# Altium schematic symbol library N-Analog.SCHLIB: 70 symbols
Pins are listed as number, name and electrical type; pins without a type are passive.

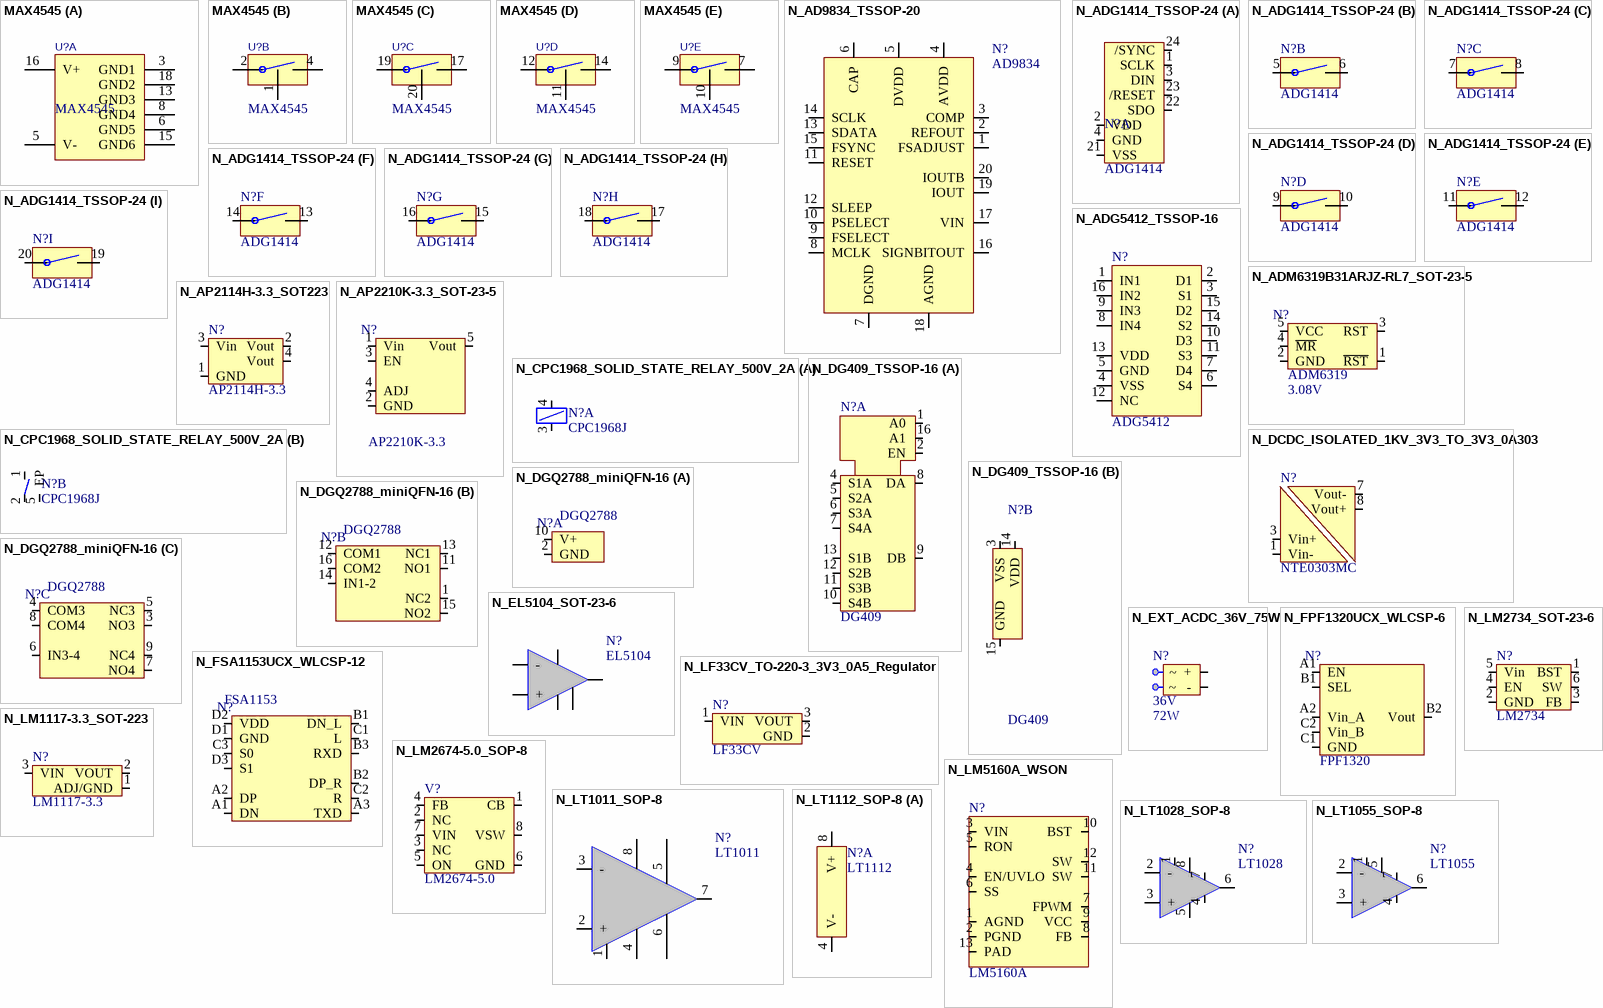
[diagram p0: symbols MAX4545 to N_LT1112_SOP-8]

## MAX4545
designator U?, comment Type: MAX4545  (hidden comment: N_MAX4545_SSOP-20)
Low-voltage bi-directional RF/video switches; Supplier - E+H Flowtec AG: S50106935
footprint SMD_SSOP_20
part A pins: 3 GND1, 5 V-, 6 GND5, 8 GND4, 13 GND3, 15 GND6, 16 V+, 18 GND2
part B pins: 1 IN1, 2 COM1, 4 NO1
part C pins: 17 NO2, 19 COM2, 20 IN2
part D pins: 11 IN3, 12 COM3, 14 NO3
part E pins: 7 NO4, 9 COM4, 10 IN4

## N_AD9834_TSSOP-20
designator N?, comment AD9834
20 mW, 2.3V to 5.5V, 75 MHz complete DDS; Supplier - Digikey: AD9834BRUZ-ND; Type: AD9834
footprint SMD_TSSOP_20
footprint SMD_TSSOP_20
pins: 1 FSADJUST, 2 REFOUT, 3 COMP, 4 AVDD, 5 DVDD, 6 CAP, 7 DGND, 8 MCLK, 9 FSELECT, 10 PSELECT, 11 RESET, 12 SLEEP, 13 SDATA, 14 SCLK, 15 FSYNC, 16 SIGNBITOUT, 17 VIN, 18 AGND, 19 IOUT, 20 IOUTB

## N_ADG1414_TSSOP-24
designator N?  Type: ADG1414  (hidden comment: N_ADG1414_TSSOP-24)
9.5Ohm ROn +-15V / +12V / +-5V iCMOS Serially-Controlled Octal SPST Switches; Supplier - Digikey: ADG1414BRUZ-REEL7CT-ND
footprint SMD_TSSOP_24
part A pins: 1 SCLK, 2 VDD, 3 DIN, 4 GND, 21 VSS, 22 SDO, 23 /RESET, 24 /SYNC
part B pins: 5 S1, 6 D1
part C pins: 7 S2, 8 D2
part D pins: 9 S3, 10 D3
part E pins: 11 S4, 12 D4
part F pins: 13 D5, 14 S5
part G pins: 15 D6, 16 S6
part H pins: 17 D7, 18 S7
part I pins: 19 D8, 20 S8

## N_ADG5412_TSSOP-16
designator N?, comment ADG5412
High Voltage Latch-Up Proof Quad SPST Switches; Supplier - Digikey: ADG5412BRUZ-REEL7CT-NC; Type: ADG5412
footprint SMD_TSSOP_16
pins: 1 IN1, 2 D1, 3 S1, 4 VSS, 5 GND, 6 S4, 7 D4, 8 IN4, 9 IN3, 10 D3, 11 S3, 12 NC, 13 VDD, 14 S2, 15 D2, 16 IN2

## N_ADM6319B31ARJZ-RL7_SOT-23-5
designator N?  value 3.08V  Type: ADM6319  (hidden comment: N_ADM6319B31ARJZ-RL7_SOT-23-5)
IC SUPERVISOR MANUAL RST SOT23-5; Supplier - Digikey: ADM6319B31ARJZ-RL7DKR-ND
footprint SMD_SOT_23_5
pins: 1 ~{RST}, 2 GND, 3 RST, 4 ~{MR}, 5 VCC

## N_AP2114H-3.3_SOT223
designator N?  Type: AP2114H-3.3  (hidden comment: N_AP2114H-3.3_SOT223)
1A Low Noise CMOS LDO Regulator; Supplier - Digikey: AP2114H-3.3TRG1DICT-ND
footprint SMD_SOT_22_3
pins: 1 GND, 2 Vout, 3 Vin, 4 Vout

## N_AP2210K-3.3_SOT-23-5
designator N?, comment AP2210K-3.3
IC REG LINEAR 3.3V 300MA SOT23-5; Supplier - Digikey: AP2210K-3.3TRG1DICT-ND; Type: AP2210K-3.3
footprint SMD_SOT_23_5
pins: 1 Vin , 2 GND, 3 EN, 4 ADJ, 5 Vout

## N_CPC1968_SOLID_STATE_RELAY_500V_2A
designator N?  Type: CPC1968J  (hidden comment: N_CPC1968_SOLID_STATE_RELAY_500V_2A)
CPC1968 / ISOPLUS - 264 Power Relay; Supplier - Digikey: CLA390-ND
footprint THT_CPC1968J_SOLID_STATE_RELAY_BENT
part A pins: 3, 4
part B pins: 1, 2, 5 EP

## N_DCDC_ISOLATED_1KV_3V3_TO_3V3_0A303
designator N?  Type: NTE0303MC  (hidden comment: N_DCDC_ISOLATED_1KV_3V3_TO_3V3_0A303)
Supplier - Digikey: 811-1673-5-ND
footprint SMD_MODULE_8
pins: 1 Vin-, 3 Vin+, 7 Vout-, 8 Vout+

## N_DG409_TSSOP-16
designator N?  Type: DG409  (hidden comment: N_DG409_TSSOP-16)
Single 8-Channel/Differential 4-Channel, CMOS Analog Multiplexers; Supplier - Digikey: DG409LDQ-T1-E3CT-ND
footprint SMD_TSSOP_16
part A pins: 1 A0, 2 EN, 4 S1A, 5 S2A, 6 S3A, 7 S4A, 8 DA, 9 DB, 10 S4B, 11 S3B, 12 S2B, 13 S1B, 16 A1
part B pins: 3 VSS, 14 VDD, 15 GND

## N_DGQ2788_miniQFN-16
designator N?  Type: DGQ2788  (hidden comment: *)
2 Circuit IC Switch 2:2 500mOhm 16-miniQFN (1.8x2.6); Supplier - Digikey: DGQ2788AEN-T1-GE4CT-ND
footprint SMD_smallQFN-16 (QFN, 16-Leads, Body 1.80x2.60mm, Pitch 0.40mm, IPC Medium Density)
part A pins: 2 GND, 10 V+
part B pins: 1 NC2, 11 NO1, 12 COM1, 13 NC1, 14 IN1-2, 15 NO2, 16 COM2
part C pins: 3 NO3, 4 COM3, 5 NC3, 6 IN3-4, 7 NO4, 8 COM4, 9 NC4

## N_EL5104_SOT-23-6
designator N?  Type: EL5104  (hidden comment: N_EL5104_SOT-23-6)
Supplier - Digikey: EL5104IWZ-T7ACT-ND
footprint SMD_SOT_23_6
pins: 1 OUT, 2 VS-, 3 +, 4 -, 5 /EN, 6 VS+

## N_EXT_ACDC_36V_75W
designator N?  value 36V  Value2: 72W  (hidden comment: N_EXT_ACDC_36V_75W)
Supplier - Digikey: 285-1829-ND
footprint THT_CON_P2.54_D0.9_1X2
pins: 1 ~  +, 2 ~   -

## N_FPF1320UCX_WLCSP-6
designator N?  Type: FPF1320  (hidden comment: *)
Power Switch/Driver 2:1 P-Channel 1.5A 6-WLCSP (0.96x1.66); Supplier - Digikey: FPF1320UCXCT-ND
footprint SMD_WLCSP_6_1.0X1.5 (BGA, 6-Leads, Body 0.96x1.46mmx0.63mm, Pitch 0.50mm)
pins: A1 EN, A2 Vin_A, B1 SEL, B2 Vout, C1 GND, C2 Vin_B

## N_FSA1153UCX_WLCSP-12
designator N?  Type: FSA1153  (hidden comment: *)
1 Circuit IC Switch 2Ohm 12-WLCSP (1.41x1.575); Supplier - Digikey: FSA1153UCXOSCT-ND
footprint SMD_WLCSP_12 (BGA, 12-Leads, Body 1.41x1.57mmx0.64mm, Pitch 0.40mm)
pins: A1 DN, A2 DP, A3 TXD, B1 DN_L, B2 DP_R, B3 RXD, C1 L, C2 R, C3 S0, D1 GND, D2 VDD, D3 S1

## N_LF33CV_TO-220-3_3V3_0A5_Regulator
designator N?  Type: LF33CV  (hidden comment: N_LF33CV_TO-220-3_3V3_0A5_Regulator)
3.3V 500mALow-Dropout Linear Regulator; Supplier - Mouser: 511-LF33CV
footprint THT_TO_220
pins: 1 VIN, 2 GND, 3 VOUT

## N_LM1117-3.3_SOT-223
designator N?  Type: LM1117-3.3  (hidden comment: N_LM1117-3.3_SOT-223)
800mA Low-Dropout Linear Regulator; Supplier - E+H-flowtec SAP: 50093839
footprint SMD_SOT_22_3
pins: 1 ADJ/GND, 2 VOUT, 3 VIN, 4 VOUT

## N_LM2674-5.0_SOP-8
designator V?  Type: LM2674-5.0  (hidden comment: N_LM2674-5.0_SOP-8)
Power Converter High Efficiency 500mA Step-Down Voltage Regulator; Supplier - E+H-flowtec SAP: 50098314
footprint SMD_SOP_8
pins: 1 CB, 2 NC, 3 NC, 4 FB, 5 ON, 6 GND, 7 VIN, 8 VSW

## N_LM2734_SOT-23-6
designator N?  Type: LM2734  (hidden comment: N_LM2734_SOT-23-6)
Thin SOT 1A Load Step-Down DC-DC Regulator; Supplier - Digikey: LM2734XMK/NOPBCT-ND
footprint SMD_SOT_23_6
pins: 1 BST, 2 GND, 3 FB, 4 EN, 5 Vin, 6 SW

## N_LM5160A_WSON
designator N?  Type: LM5160A  (hidden comment: N_LM5160A_WSON)
Power, Step-Down Converter, Vinmax = 65V, 1.5A
pins: 1 AGND, 2 PGND, 3 VIN, 4 EN/UVLO, 5 RON, 6 SS, 7 FPWM, 8 FB, 9 VCC, 10 BST, 11 SW, 12 SW, 13 PAD

## N_LT1011_SOP-8
designator N?  Type: LT1011  (hidden comment: N_LT1011_SOP-8)
Voltage Comparator; Supplier - Digikey: LT1011CS8#PBF-ND
footprint SMD_SOP_8
pins: 1 GND, 2 +, 3 -, 4 V-, 5 Balance, 6 Balance/Strobe, 7 OUTPUT, 8 V+

## N_LT1028_SOP-8
designator N?  Type: LT1028  (hidden comment: N_LT1028_SOP-8)
Ultralow Noise Precision High Speed Op Amps; Supplier - Digikey: LT1028CS8#PBF-ND
footprint SMD_SOP_8
pins: 1 VOS-TRIM, 2 -, 3 +, 4 V-, 5 OVERCOMP, 6 OUT-B, 7 V+, 8 VOS-TRIM

## N_LT1055_SOP-8
designator N?  Type: LT1055  (hidden comment: N_LT1055_SOP-8)
Precision, High Speed, JFET Input Operational Amplifier; Supplier - Digikey: LT1055S8#PBF-ND
footprint SMD_SOP_8
pins: 1 BAL, 2 -, 3 +, 4 V-, 5 BAL, 6 OUT-B, 7 V+

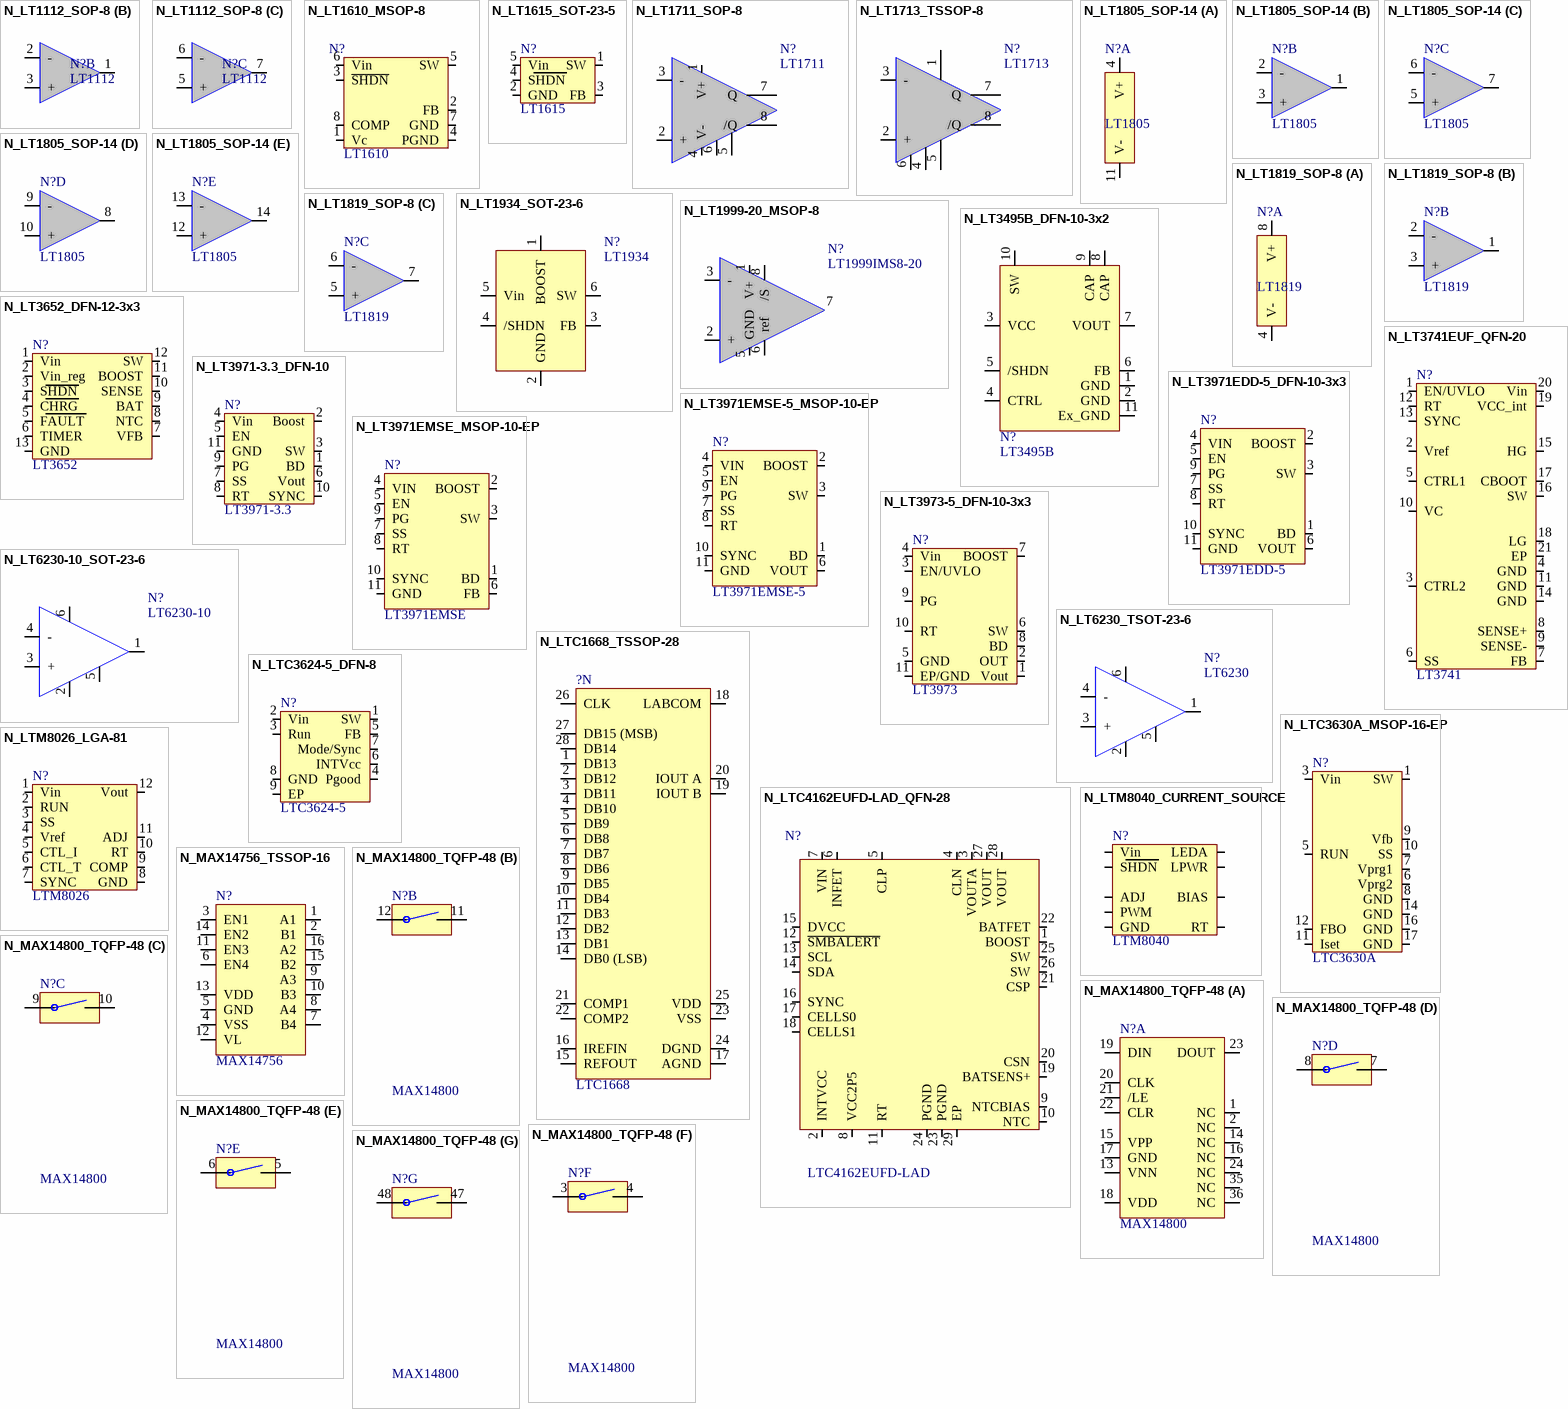
[diagram p1: symbols N_LT1112_SOP-8 to N_MAX14800_TQFP-48]

## N_LT1112_SOP-8
designator N?, comment LT1112
Dual Low Power Precision, Picoamp input Operational Amplifier; Supplier - E+H-flowtec SAP: 50066003; Type: LT1112
footprint SMD_SOP_8
part A pins: 4 V-, 8 V+
part B pins: 1 OUT-A, 2 -, 3 +
part C pins: 5 +, 6 -, 7 OUT-B

## N_LT1610_MSOP-8
designator N?  Type: LT1610  (hidden comment: N_LT1610_MSOP-8)
Supplier - Digikey: LT1610CMS8#PBF-ND
footprint SMD_MSOP-8
pins: 1 Vc, 2 FB, 3 ~{SHDN}, 4 PGND, 5 SW, 6 Vin, 7 GND, 8 COMP

## N_LT1615_SOT-23-5
designator N?  Type: LT1615  (hidden comment: N_LT1615_SOT-23-5)
Micropower Set-Up DC/DC Converter in ThinSOT; Supplier - Digikey: LT1615ES5#TRMPBFCT-ND
footprint SMD_SOT_23_5
pins: 1 SW, 2 GND, 3 FB, 4 SHDN, 5 Vin

## N_LT1711_SOP-8
designator N?  Type: LT1711  (hidden comment: N_LT1711_SOP-8)
Rail-to-rail Voltage Comparator; Supplier - Digikey: LT1711CMS8#PBF-ND
footprint SMD_SOP_8
pins: 1 V+, 2 +, 3 -, 4 V-, 5 LATCH ENABLE, 6 GND, 7 Q, 8 /Q

## N_LT1713_TSSOP-8
designator N?  Type: LT1713  (hidden comment: N_LT1713_TSSOP-8)
Single, 7ns, Low Power, Rail-to-Rail Comparator; Supplier - Digikey: LT1713CMS8#PBF-ND
footprint SMD_TSSOP_8
pins: 1 V+, 2 +, 3 -, 4 V-, 5 Latch Enable, 6 GND, 7 Q, 8 /Q

## N_LT1805_SOP-14
designator N?  Type: LT1805  (hidden comment: N_LT1805_SOP-14)
Quad 100V/us 85MHz, Rail-To-Rail Input and Output Op Amps; Supplier - Digikey: LT1805CS#PBF-ND
footprint SMD_SOP_14
part A pins: 4 V+, 11 V-
part B pins: 1 OUT-A, 2 -, 3 +
part C pins: 5 +, 6 -, 7 OUT-B
part D pins: 8 OUT-C, 9 -, 10 +
part E pins: 12 +, 13 -, 14 OUT-D

## N_LT1819_SOP-8
designator N?, comment LT1819
400MHz, 2500V/us, 9mA Single Operational Amplifier; Supplier - Digikey: LT1819CMS8#PBF-ND; Type: LT1819
footprint SMD_SOP_8
part A pins: 4 V-, 8 V+
part B pins: 1 OUT-A, 2 -, 3 +
part C pins: 5 +, 6 -, 7 OUT-B

## N_LT1934_SOT-23-6
designator N?, comment LT1934
Micropower Step-Down Switching Regulators; Supplier - Digikey: LT1934ES6#TRMPBFCT-ND; Type: LT1934
footprint SMD_SOT_23_6
pins: 1 BOOST, 2 GND, 3 FB, 4 /SHDN, 5 Vin, 6 SW

## N_LT1999-20_MSOP-8
designator N?  Type: LT1999IMS8-20  (hidden comment: N_LT1999-20_MSOP-8)
High Voltage, Bidirectional / Current Sense Amplifier; Supplier - Digikey: LT1999IMS8-20#PBF-ND
footprint SMD_MSOP-8
pins: 1 V+, 2 +, 3 -, 4 V+, 5 GND, 6 ref, 7 Q, 8 /S

## N_LT3495B_DFN-10-3x2
designator N?, comment LT3495B
Micropower Low Noise Boost Converter with Output Disconnect; Supplier - Digikey: LT3495BEDDB#TRMPBFTR-ND; Type: LT3495B
footprint SMD_DFN_10_3x2
pins: 1 GND, 2 GND, 3 VCC, 4 CTRL, 5 /SHDN, 6 FB, 7 VOUT, 8 CAP, 9 CAP, 10 SW, 11 Ex_GND

## N_LT3652_DFN-12-3x3
designator N?  Type: LT3652  (hidden comment: N_LT3652_DFN-12-3x3)
Power Tracking 2A Battery Charger for Solar Power; Supplier - Digikey: LT3652EDD#PBF-ND
footprint SMD_DFN_12_3x3
pins: 1 Vin, 2 Vin_reg, 3 SHDN, 4 CHRG, 5 FAULT, 6 TIMER, 7 VFB, 8 NTC, 9 BAT, 10 SENSE, 11 BOOST, 12 SW, 13 GND

## N_LT3741EUF_QFN-20
designator N?  Type: LT3741  (hidden comment: N_LT3741EUF_QFN-20)
High Power, CCVC, Step-Down Controller; Supplier - Digikey: LT3741EUF#PBF-ND
footprint SMD_QFN-20
pins: 1 EN/UVLO, 2 Vref, 3 CTRL2, 4 GND, 5 CTRL1, 6 SS, 7 FB, 8 SENSE+, 9 SENSE-, 10 VC, 11 GND, 12 RT, 13 SYNC, 14 GND, 15 HG, 16 SW, 17 CBOOT, 18 LG, 19 VCC_int, 20 Vin, 21 EP

## N_LT3971-3.3_DFN-10
designator N?  Type: LT3971-3.3  (hidden comment: N_LT3971-3.3_DFN-10)
38V, 1.2A, 2MHz Step-Down Regulator with 2.8µA Quiescent Current; Supplier - Digikey: LT3971EDD-3.3#PBF-ND
footprint SMD_DFN_10_3X3
pins: 1 BD, 2 Boost, 3 SW, 4 Vin, 5 EN, 6 Vout, 7 SS, 8 RT, 9 PG, 10 SYNC, 11 GND

## N_LT3971EDD-5_DFN-10-3x3
designator N?  Type: LT3971EDD-5  (hidden comment: N_LT3971EDD-5_DFN-10-3x3)
38V, 1.2A, 2MHz Step-Down Regulator with 2.8uA Quiescent Current; Supplier - Farnell: 2068055
footprint SMD_DFN_10_3X3
pins: 1 BD, 2 BOOST, 3 SW, 4 VIN, 5 EN, 6 VOUT, 7 SS, 8 RT, 9 PG, 10 SYNC, 11 GND

## N_LT3971EMSE-5_MSOP-10-EP
designator N?  Type: LT3971EMSE-5  (hidden comment: N_LT3971EMSE-5_MSOP-10-EP)
38V, 1.2A, 2MHz Step-Down Regulator with 2.8uA Quiescent Current; Supplier - Digikey: LT3971EMSE-5#PBF-ND
footprint SMD_MSOP_10_EP
pins: 1 BD, 2 BOOST, 3 SW, 4 VIN, 5 EN, 6 VOUT, 7 SS, 8 RT, 9 PG, 10 SYNC, 11 GND

## N_LT3971EMSE_MSOP-10-EP
designator N?  Type: LT3971EMSE  (hidden comment: N_LT3971EMSE_MSOP-10-EP)
38V, 1.2A, 2MHz Step-Down Regulator with 2.8uA Quiescent Current; Supplier - Digikey: LT3971EMSE#PBF-ND
footprint SMD_MSOP_10_EP
pins: 1 BD, 2 BOOST, 3 SW, 4 VIN, 5 EN, 6 FB, 7 SS, 8 RT, 9 PG, 10 SYNC, 11 GND

## N_LT3973-5_DFN-10-3x3
designator N?, comment Type: LT3973  (hidden comment: N_LT3973-5_DFN-10)
42V, 750mA Step-Down Regulator with 2.5uA Quiescent Current and Integrated Diodes; Supplier - Digikey: LT3973EDD-5#PBF-ND
footprint SMD_DFN_10_3X3
pins: 1 Vout, 2 OUT, 3 EN/UVLO, 4 Vin, 5 GND, 6 SW, 7 BOOST, 8 BD, 9 PG, 10 RT, 11 EP/GND

## N_LT6230-10_SOT-23-6
designator N?, comment LT6230-10
215MHz, Rail-to-Rail, 1.1nV/sqrt(Hz), 3.5mA Op Amp Family; Supplier - Digikey: LT6230CS6-10#TR-ND; Type: LT6230-10
footprint SMD_SOT_23_6
pins: 1 OUT, 2 V-, 3 +, 4 -, 5 /EN, 6 V+

## N_LT6230_TSOT-23-6
designator N?  Type: LT6230  (hidden comment: N_LT6230_TSOT-23-6)
215MHz, Rail-to-Rail Output, 1.1nV/sqrt(Hz), 3.5mA Op Amp Family
footprint SMD_TSOT_23_6
pins: 1 OUT, 2 V-, 3 +, 4 -, 5 /EN, 6 V+

## N_LTC1668_TSSOP-28
designator ?N, comment LTC1668
16-Bit, 50Msps DAC; Supplier - Digikey: LTC1668CG#PBF-ND; Type: LTC1668
footprint SMD_TSSOP_28
pins: 1 DB13, 2 DB12, 3 DB11, 4 DB10, 5 DB9, 6 DB8, 7 DB7, 8 DB6, 9 DB5, 10 DB4, 11 DB3, 12 DB2, 13 DB1, 14 DB0 (LSB), 15 REFOUT, 16 IREFIN, 17 AGND, 18 LABCOM, 19 IOUT B, 20 IOUT A, 21 COMP1, 22 COMP2, 23 VSS, 24 DGND, 25 VDD, 26 CLK, 27 DB15 (MSB), 28 DB14

## N_LTC3624-5_DFN-8
designator N?  Type: LTC3624-5  (hidden comment: N_LTC3624-5_DFN-8)
17V, 2A Synchronous Step-Down Regulator with 3.5µA Quiescent Current; Supplier - Digikey: LTC3624EDD-25#PBF-ND
footprint SMD_DFN_8_3X3
pins: 1 SW, 2 Vin, 3 Run, 4 Pgood, 5 FB, 6 INTVcc, 7 Mode/Sync, 8 GND, 9 EP

## N_LTC3630A_MSOP-16-EP
designator N?  Type: LTC3630A  (hidden comment: N_LTC3630A_MSOP-16-EP)
High Efficiency, 76V 500mA Synchronous Step-Down Converter; Supplier - Digikey: LTC3630AEMSE#PBF-ND
footprint SMD_MSOP_16_EP_SKIP1
pins: 1 SW, 3 Vin, 5 RUN, 6 Vprg2, 7 Vprg1, 8 GND, 9 Vfb, 10 SS, 11 Iset, 12 FBO, 14 GND, 16 GND, 17 GND

## N_LTC4162EUFD-LAD_QFN-28
designator N?  Type: LTC4162EUFD-LAD  (hidden comment: N_LTC4162EUFD-LAD_QFN-28)
35V/3.2A MULTI-CELL LITHIUM-ION; Supplier - Digikey: LTC4162EUFD-LAD#PBF-ND
footprint QFN50P400X500X80_HS-29N (QFN, 28-Leads, Body 4.00x5.00mm, Pitch 0.50mm, Thermal Pad 2.65x3.65mm, IPC Medium Density)
pins: 1 BOOST, 2 INTVCC, 3 VOUTA, 4 CLN, 5 CLP, 6 INFET, 7 VIN, 8 VCC2P5, 9 NTCBIAS, 10 NTC, 11 RT, 12 ~{SMBALERT}, 13 SCL, 14 SDA, 15 DVCC, 16 SYNC, 17 CELLS0, 18 CELLS1, 19 BATSENS+, 20 CSN, 21 CSP, 22 BATFET, 23 PGND, 24 PGND, 25 SW, 26 SW, 27 VOUT, 28 VOUT, 29 EP

## N_LTM8026_LGA-81
designator N?  Type: LTM8026  (hidden comment: N_LTM8026_LGA-81)
Supplier - Digikey: LTM8026EV#PBF-ND
footprint SMD_LGA-81
pins: 1 Vin, 2 RUN, 3 SS, 4 Vref, 5 CTL_I, 6 CTL_T, 7 SYNC, 8 GND, 9 COMP, 10 RT, 11 ADJ, 12 Vout

## N_LTM8040_CURRENT_SOURCE
designator N?, comment Type: LTM8040  (hidden comment: N_LTM8040_LGA-66)
36V, 1A uModule LED Driver and Current Source; Supplier - Digikey: LTM8040EV#PBF-ND
footprint SMD_LGA-66 (SMD LGA66 package)
pins: 1 GND, 2 Vin, 3 LPWR, 4 RT, 5 ADJ, 6 SHDN, 7 BIAS, 8 PWM, 9 LEDA

## N_MAX14756_TSSOP-16
designator N?, comment MAX14756
Quad SPST +70V Analog Switches; Supplier - Digikey: MAX14756EUE+-ND; Type: MAX14756
footprint SMD_TSSOP_16
pins: 1 A1, 2 B1, 3 EN1, 4 VSS, 5 GND, 6 EN4, 7 B4, 8 A4, 9 A3, 10 B3, 11 EN3, 12 VL, 13 VDD, 14 EN2, 15 B2, 16 A2

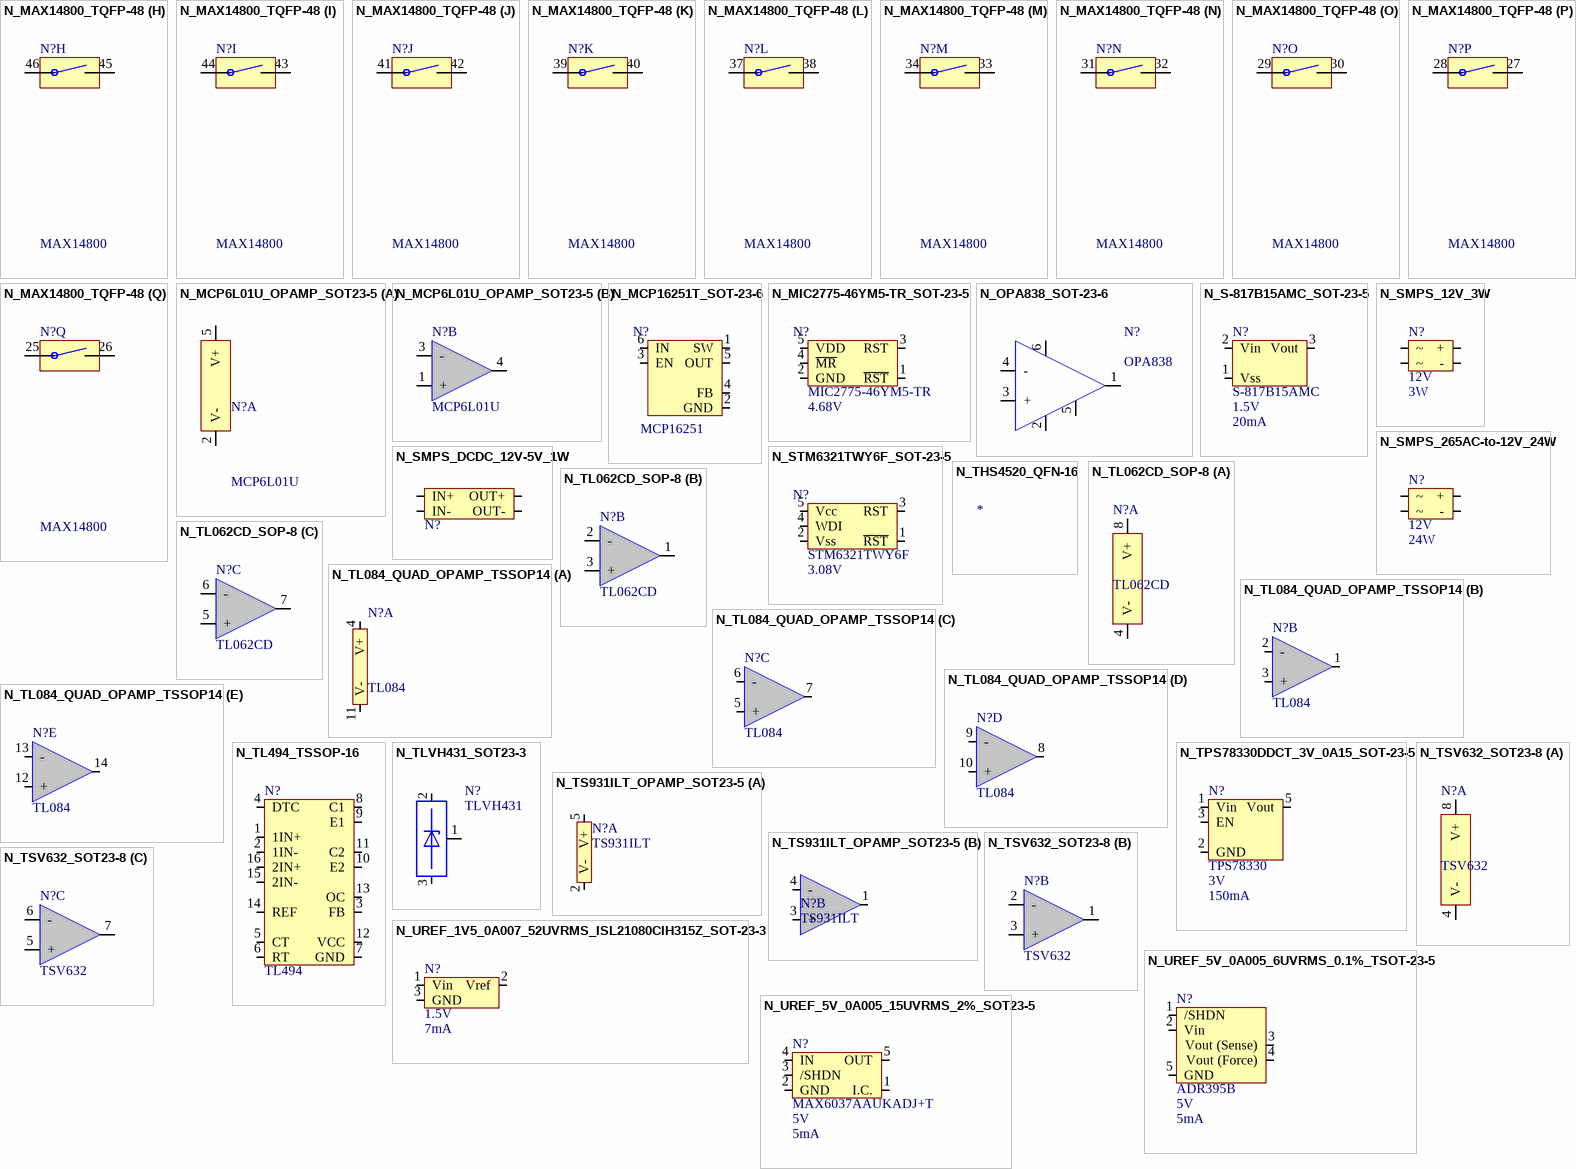
[diagram p2: symbols N_MAX14800_TQFP-48 to N_UREF_5V_0A005_15UVRMS_2%_SOT23-5]

## N_MAX14800_TQFP-48
designator N?, comment MAX14800
HV Analog Switches, Low-Charge Injection, 16-Channel; Supplier - Digikey: MAX14800CCM+-ND; Type: MAX14800
footprint SMD_TQFP-48
part A pins: 1 NC, 2 NC, 13 VNN, 14 NC, 15 VPP, 16 NC, 17 GND, 18 VDD, 19 DIN, 20 CLK, 21 /LE, 22 CLR, 23 DOUT, 24 NC, 35 NC, 36 NC
part B pins: 11 NO0, 12 COM0
part C pins: 9 COM1, 10 NO1
part D pins: 7 NO2, 8 COM2
part E pins: 5 NO3, 6 COM3
part F pins: 3 COM4, 4 NO4
part G pins: 47 NO5, 48 COM5
part H pins: 45 NO6, 46 COM6
part I pins: 43 NO7, 44 COM7
part J pins: 41 COM8, 42 NO8
part K pins: 39 COM9, 40 NO9
part L pins: 37 COM10, 38 NO10
part M pins: 33 NO11, 34 COM11
part N pins: 31 COM12, 32 NO12
part O pins: 29 COM13, 30 NO13
part P pins: 27 NO14, 28 COM14
part Q pins: 25 COM15, 26 NO15

## N_MCP6L01U_OPAMP_SOT23-5
designator N?  Type: MCP6L01U  (hidden comment: N_MCP6L01U_OPAMP_SOT23-5)
1 MHz, 85 µA Op Amps; Supplier - Digikey: MCP6L01UT-E/OTCT-ND
footprint SMD_SOT_23_5
part A pins: 2 V-, 5 V+
part B pins: 1 +, 3 -, 4 OUT-A

## N_MCP16251T_SOT-23-6
designator N?  Type: MCP16251  (hidden comment: *)
Boost Switching Regulator IC Positive Adjustable 1.8V 1 Output 100mA (Switch) SOT-23-6; Supplier - Digikey: MCP16251T-I/CHCT-ND
footprint SMD_SOT_23_6
pins: 1 SW, 2 GND, 3 EN, 4 FB, 5 OUT, 6 IN

## N_MIC2775-46YM5-TR_SOT-23-5
designator N?  value 4.68V  Type: MIC2775-46YM5-TR  (hidden comment: N_MIC2775-46YM5-TR_SOT-23-5)
IC SUPERVISOR MICROPOWER SOT23-5; Supplier - Digikey: 576-2684-1-ND
footprint SMD_SOT_23_5
pins: 1 ~{RST}, 2 GND, 3 RST, 4 ~{MR}, 5 VDD

## N_OPA838_SOT-23-6
designator N?  Type: OPA838
OPA838 1-mA, 300-MHz Gain Bandwidth, Voltage-Feedback Op Amp; Supplier - Digikey: 296-47401-1-ND
footprint SMD_SOT_23_6
pins: 1 OUT, 2 V-, 3 +, 4 -, 5 /EN, 6 V+

## N_S-817B15AMC_SOT-23-5
designator N?  value 1.5V  Type: S-817B15AMC  Value2: 20mA  (hidden comment: N_S-817B15AMC_SOT-23-5)
Super-Small Package CMOS Voltage Regulator
footprint SMD_SOT_23_5
pins: 1 Vss, 2 Vin, 3 Vout

## N_SMPS_12V_3W
designator N?  value 12V  Value2: 3W  (hidden comment: N_SMPS_12V_3W)
Supplier - Digikey: 497-8379-5-ND; Type: Universal-12V
footprint THT_SPAC265BC12P0.30
pins: 1 ~, 2 ~, 3 +, 4 -

## N_SMPS_265AC-to-12V_24W
designator N?  value 12V  Value2: 24W  (hidden comment: N_SMPS_265AC-to-12V_24W)
Supplier - Digikey: 1470-2272-ND; Type: Universal-12V
footprint THT_VCP24US12-E (SMPS Footprint (VCP24US12-E))
pins: 1 ~, 2 ~, 3 +, 4 -

## N_SMPS_DCDC_12V-5V_1W
designator N?  (value not drawn)
DC-DC converter, 12V to 5V; Supplier - Digikey: 102-1401-1-ND
footprint SMD_VBT1-S12-S5-SMT-TR
pins: 1 IN-, 2 IN+, 4 OUT-, 5 OUT+

## N_STM6321TWY6F_SOT-23-5
designator N?  value 3.08V  Type: STM6321TWY6F  (hidden comment: N_STM6321TWY6F_SOT-23-5)
IC SUPERVISOR PB RESET SOT23-5; Supplier - Digikey: 497-4661-1-ND
footprint SMD_SOT_23_5
pins: 1 ~{RST}, 2 Vss, 3 RST, 4 WDI, 5 Vcc

## N_THS4520_QFN-16
designator *

## N_TL062CD_SOP-8
designator N?  Type: TL062CD  (hidden comment: N_TL062CD_SOP-8)
Low-power JFET dual operation amplifier; Supplier - E+H-flowtec SAP: 50020349
footprint SMD_SOP_8
part A pins: 4 V-, 8 V+
part B pins: 1 OUT-A, 2 -, 3 +
part C pins: 5 +, 6 -, 7 OUT-B

## N_TL084_QUAD_OPAMP_TSSOP14
designator N?  Type: TL084  (hidden comment: N_TL084_QUAD_OPAMP_TSSOP14)
TL084 Quad Opamp; Supplier - E+H-flowtec SAP: 71120157
footprint SMD_TSSOP_14
part A pins: 4 V+, 11 V-
part B pins: 1 OUT, 2 -, 3 +
part C pins: 5 +, 6 -, 7 OUT
part D pins: 8 OUT, 9 -, 10 +
part E pins: 12 +, 13 -, 14 OUT

## N_TL494_TSSOP-16
designator N?  Type: TL494  (hidden comment: N_TL494_TSSOP-16)
Pulse-Width-Modulation Control Circuit; Supplier - Digikey: 296-10192-2-ND
footprint SMD_TSSOP_16
pins: 1 1IN+, 2 1IN-, 3 FB, 4 DTC, 5 CT, 6 RT, 7 GND, 8 C1, 9 E1, 10 E2, 11 C2, 12 VCC, 13 OC, 14 REF, 15 2IN-, 16 2IN+

## N_TLVH431_SOT23-3
designator N?  Type: TLVH431  (hidden comment: N_TLVH431_SOT23-3)
LOW-VOLTAGE ADJUSTABLE PRECISION SHUNT REGULATORS; Supplier - E+H-flowtec SAP: 71120701
footprint SMD_SOT_23_3
pins: 1, 2, 3

## N_TPS78330DDCT_3V_0A15_SOT-23-5
designator N?  value 3V  Type: TPS78330  Value2: 150mA  (hidden comment: N_TPS78330DDCT_3V_0A15_SOT-23-5)
Ultralow Quescent Current Low-Dropout Linear Regulator
footprint SMD_SOT_23_5
pins: 1 Vin, 2 GND, 3 EN, 4 GND hidden to 2, 5 Vout

## N_TS931ILT_OPAMP_SOT23-5
designator N?  Type: TS931ILT  (hidden comment: N_TS931ILT_OPAMP_SOT23-5)
Output rail-to-rail micropower operational amplifiers; Supplier - Digikey: 497-4077-1-ND
footprint SMD_SOT_23_5
part A pins: 2 V-, 5 V+
part B pins: 1 OUT, 3 +, 4 -

## N_TSV632_SOT23-8
designator N?  Type: TSV632  (hidden comment: N_TSV632_SOT23-8)
rail-to-rail, 880kHz, dual operation amplifier
footprint SMD_SOP_8
part A pins: 4 V-, 8 V+
part B pins: 1 OUT-A, 2 -, 3 +
part C pins: 5 +, 6 -, 7 OUT-B

## N_UREF_1V5_0A007_52UVRMS_ISL21080CIH315Z_SOT-23-3
designator N?  value 1.5V  Value2: 7mA  (hidden comment: N_UREF_1V5_0A007_52UVRMS_ISL21080CIH315Z_SOT-23-3)
Supplier - Digikey: ISL21080CIH315Z-TKCT-ND; Type: ISL21080CIH315Z-TK
footprint SMD_SOT_23_3
pins: 1 Vin, 2 Vref, 3 GND

## N_UREF_5V_0A005_6UVRMS_0.1%_TSOT-23-5
designator N?  value 5V  Type: ADR395B  Value2: 5mA  (hidden comment: N_UREF_5V_0A005_6UVRMS_0.1%_TSOT-23-5)
Micropower, Low Noise Precision Voltage References with Shutdown; Supplier - Digikey: ADR395BUJZREEL7CT-ND
footprint SMD_TSOT_23_5
pins: 1 /SHDN, 2 Vin, 3 Vout (Sense), 4 Vout (Force), 5 GND

## N_UREF_5V_0A005_15UVRMS_2%_SOT23-5
designator N?  value 5V  Type: MAX6037AAUKADJ+T  Value2: 5mA  (hidden comment: N_UREF_5V_0A005_15UVRMS_2%_SOT23-5)
Low-Power, Fixed and Adjustable Reference with Shutdown in SOT23; Supplier - Digikey: MAX6037AAUKADJ+TCT-ND
footprint SMD_SOT_23_5
pins: 1 I.C., 2 GND, 3 /SHDN, 4 IN, 5 OUT